# Altium footprint library ee_453_yourname.PcbLib: 35 footprints (part 1 of 3)
Each footprint in its own frame and in the unit in brackets; x right, y up, seen from the top. Pads: shape width x height; smd on the part's side, far side on the other; paste and mask are expansions set on the pad; w line width, h text height; cw(c..) or ccw(c..) is an arc to the next point about the centre after c.
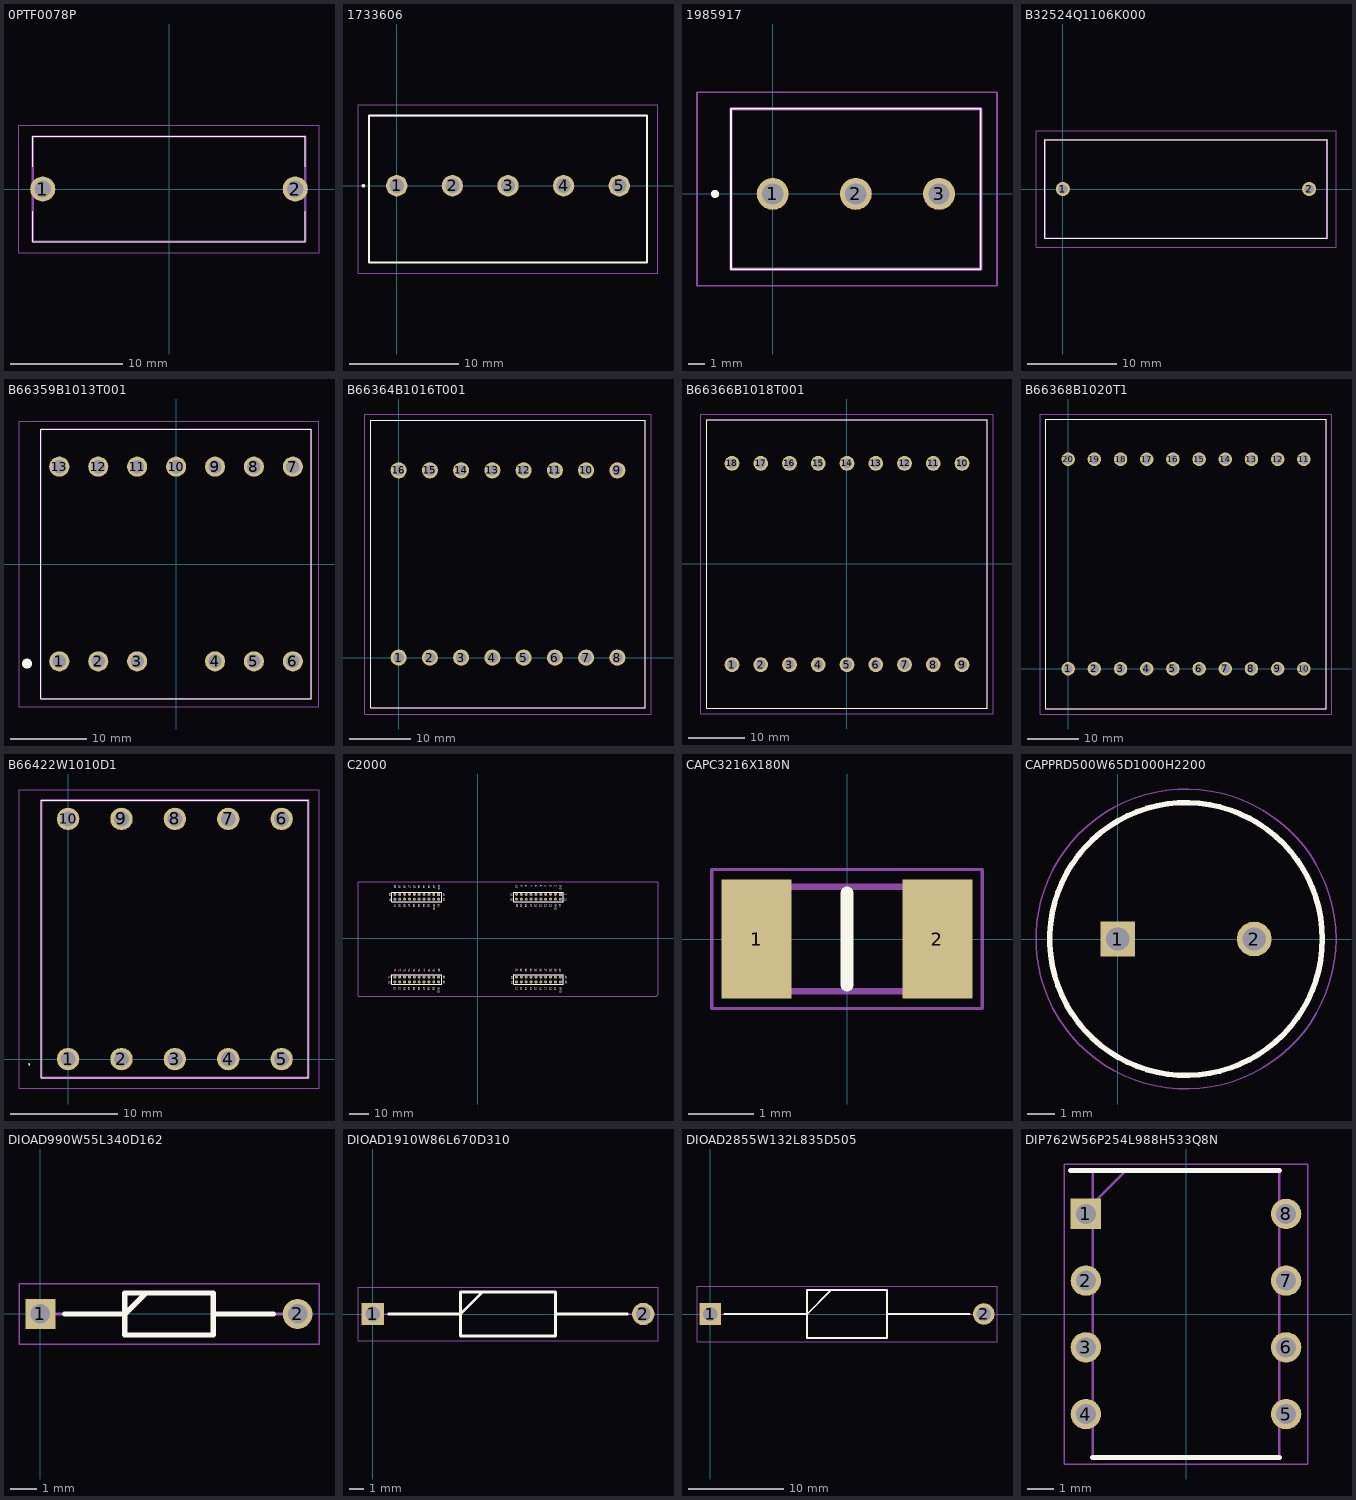
[diagram p0: the footprints below, top view; thin cyan lines are the x and y axes]

## 0PTF0078P [mm]
pads (2):
  round 2.25 hole 1.5: 1(-11.3,0) 2(11.3,0)
Top Overlay:
  lines w0.1: -12.2,-2 -12.2,-4.7 12.2,-4.7 12.2,-2 ; -12.2,2 -12.2,4.7 12.2,4.7 12.2,2
Mechanical 13:
  lines w0.2: -12.2,-4.7 -12.2,4.7 12.2,4.7 12.2,-4.7 -12.2,-4.7
Mechanical 15:
  lines w0.1: -13.425,-5.7 -13.425,5.7 13.425,5.7 13.425,-5.7 -13.425,-5.7
3D body "0PTF0078P.stp": height 11.6, standoff -5, extent -12.2,-4.7 12.2,4.7

## 1733606 [mm]
pads (5):
  round 1.95 hole 1.3: 1(0,0) 2(5.08,0) 3(10.16,0) 4(15.24,0) 5(20.32,0)
Top Overlay:
  lines w0.2: -3.1,0 ccw(c-3.05,0) -3,0 ; -3.1,0 cw(c-3.05,0) -3,0 ; -3.1,0 ccw(c-3.05,0) -3,0 ; -2.54,-7 22.86,-7 22.86,6.4 -2.54,6.4 -2.54,-7
Mechanical 13:
  lines w0.1: -2.54,-7 22.86,-7 22.86,6.4 -2.54,6.4 -2.54,-7
Mechanical 15:
  lines w0.1: -3.54,-8 23.86,-8 23.86,7.4 -3.54,7.4 -3.54,-8
3D body "1733606.stp": height 15.55, standoff -5, extent -2.54,-7 22.86,6.4

## 1985917 [mm]
pads (3):
  round 1.95 hole 1.3: 1(0,0) 2(5.08,0) 3(10.16,0)
Top Overlay:
  lines w0.1: -2.54,-4.6 -2.54,5.2 12.7,5.2 12.7,-4.6 -2.54,-4.6
  lines w0.3: -3.62,0 ccw(c-3.52,0) -3.42,0 ccw(c-3.52,0) -3.62,0
Mechanical 13:
  lines w0.2: -2.54,-4.6 -2.54,5.2 12.7,5.2 12.7,-4.6 -2.54,-4.6
Mechanical 15:
  lines w0.1: -4.62,-5.6 -4.62,6.2 13.7,6.2 13.7,-5.6 -4.62,-5.6
3D body "1985917.stp": height 14.05, standoff -5, extent -2.54,-4.6 12.7,5.2

## B32524Q1106K000 [mm]
pads (2):
  round 1.575 hole 1.05: 1(0,0) 2(27.5,0)
Top Overlay:
  lines w0.1: -2,-5.5 -2,5.5 29.5,5.5 29.5,-5.5 -2,-5.5
Mechanical 13:
  lines w0.2: -2,-5.5 -2,5.5 29.5,5.5 29.5,-5.5 -2,-5.5
Mechanical 15:
  lines w0.1: -3,-6.5 -3,6.5 30.5,6.5 30.5,-6.5 -3,-6.5
3D body "B32524Q1106K000.stp": height 21.1, standoff -5, extent -2,-5.5 29.5,5.5

## B66359B1013T001 [mm]
pads (13):
  round 2.625 hole 1.75: 1(-15.24,-12.7) 2(-10.16,-12.7) 3(-5.08,-12.7) 4(5.08,-12.7) 5(10.16,-12.7) 6(15.24,-12.7) 7(15.24,12.7) 8(10.16,12.7) 9(5.08,12.7) 10(0,12.7) 11(-5.08,12.7) 12(-10.16,12.7) 13(-15.24,12.7)
Top Overlay:
  lines w0.1: -17.65,-17.6 -17.65,17.6 17.65,17.6 17.65,-17.6 -17.65,-17.6
  lines w1.2: -19.5,-13 ccw(c-19.45,-13) -19.4,-13 ccw(c-19.45,-13) -19.5,-13
Mechanical 13:
  lines w0.2: -17.65,-17.6 -17.65,17.6 17.65,17.6 17.65,-17.6 -17.65,-17.6
Mechanical 15:
  lines w0.1: -20.5,-18.6 -20.5,18.6 18.65,18.6 18.65,-18.6 -20.5,-18.6
3D body "B66359B1013T001.stp": height 25, standoff -5, extent -17.65,-17.6 17.65,17.6

## B66364B1016T001 [mm]
pads (16):
  round 2.625 hole 1.75: 1(0,0) 2(5.08,0) 3(10.16,0) 4(15.24,0) 5(20.32,0) 6(25.4,0) 7(30.48,0) 8(35.56,0) 9(35.56,30.48) 10(30.48,30.48) 11(25.4,30.48) 12(20.32,30.48) 13(15.24,30.48) 14(10.16,30.48) 15(5.08,30.48) 16(0,30.48)
Top Overlay:
  lines w0.1: -4.52,-8.16 -4.52,38.64 40.08,38.64 40.08,-8.16 -4.52,-8.16
Mechanical 13:
  lines w0.2: -4.52,-8.16 -4.52,38.64 40.08,38.64 40.08,-8.16 -4.52,-8.16
Mechanical 15:
  lines w0.1: -5.52,-9.16 -5.52,39.64 41.08,39.64 41.08,-9.16 -5.52,-9.16
3D body "B66364B1016T001.stp": height 35.5, standoff -5, extent -4.52,-8.16 40.08,38.64

## B66366B1018T001 [mm]
pads (18):
  round 2.625 hole 1.75: 1(-20.32,-17.78) 2(-15.24,-17.78) 3(-10.16,-17.78) 4(-5.08,-17.78) 5(0,-17.78) 6(5.08,-17.78) 7(10.16,-17.78) 8(15.24,-17.78) 9(20.32,-17.78) 10(20.32,17.78) 11(15.24,17.78) 12(10.16,17.78) 13(5.08,17.78) 14(0,17.78) 15(-5.08,17.78) 16(-10.16,17.78) 17(-15.24,17.78) 18(-20.32,17.78)
Top Overlay:
  lines w0.1: -24.8,-25.5 24.8,-25.5 24.8,25.5 -24.8,25.5 -24.8,-25.5
Mechanical 13:
  lines w0.2: -24.8,-25.5 24.8,-25.5 24.8,25.5 -24.8,25.5 -24.8,-25.5
Mechanical 15:
  lines w0.1: -25.8,-26.5 25.8,-26.5 25.8,26.5 -25.8,26.5 -25.8,-26.5
3D body "B66366B1018T001.stp": height 38.4, standoff -5, extent -24.8,-25.5 24.8,25.5

## B66368B1020T1 [mm]
pads (20):
  round 2.625 hole 1.75: 1(0,0) 2(5.08,0) 3(10.16,0) 4(15.24,0) 5(20.32,0) 6(25.4,0) 7(30.48,0) 8(35.56,0) 9(40.64,0) 10(45.72,0) 11(45.72,40.64) 12(40.64,40.64) 13(35.56,40.64) 14(30.48,40.64) 15(25.4,40.64) 16(20.32,40.64) 17(15.24,40.64) 18(10.16,40.64) 19(5.08,40.64) 20(0,40.64)
Top Overlay:
  lines w0.1: -4.39,-7.78 -4.39,48.42 50.11,48.42 50.11,-7.78 -4.39,-7.78
Mechanical 13:
  lines w0.2: -4.39,-7.78 -4.39,48.42 50.11,48.42 50.11,-7.78 -4.39,-7.78
Mechanical 15:
  lines w0.1: -5.39,-8.78 -5.39,49.42 51.11,49.42 51.11,-8.78 -5.39,-8.78
3D body "B66368B1020T1.stp": height 40.9, standoff -5, extent -4.39,-7.78 50.11,48.42

## B66422W1010D1 [mm]
pads (10):
  round 2.1 hole 1.4: 1(0,0) 2(5,0) 3(10,0) 4(15,0) 5(20,0) 6(20,22.5) 7(15,22.5) 8(10,22.5) 9(5,22.5) 10(0,22.5)
Top Overlay:
  lines w0.1: -3.7,-0.5 cw(c-3.65,-0.5) -3.6,-0.5 cw(c-3.65,-0.5) -3.7,-0.5 ; -2.5,-1.75 -2.5,24.25 22.5,24.25 22.5,-1.75 -2.5,-1.75
Mechanical 13:
  lines w0.2: -2.5,-1.75 -2.5,24.25 22.5,24.25 22.5,-1.75 -2.5,-1.75
Mechanical 15:
  lines w0.1: -4.6,-2.75 -4.6,25.25 23.5,25.25 23.5,-2.75 -4.6,-2.75
3D body "B66422W1010D1.stp": height 12, standoff -5, extent -2.5,-1.75 22.5,24.25

## C2000 [mm]
pads (80):
  rrect6% 1.55x1.55 hole 1.02: 1(43.18,22.86) 41(-20.32,22.86)
  round 1.55 hole 1.02: 2(40.64,22.86) 3(38.1,22.86) 4(35.56,22.86) 5(33.02,22.86) 6(30.48,22.86) 7(27.94,22.86) 8(25.4,22.86) 9(22.86,22.86) 10(20.32,22.86) 11(20.32,-22.86) 12(22.86,-22.86) 13(25.4,-22.86) 14(27.94,-22.86) 15(30.48,-22.86) 16(33.02,-22.86) 17(35.56,-22.86) 18(38.1,-22.86) 19(40.64,-22.86) 20(43.18,-22.86) 21(43.18,20.32) 22(40.64,20.32) 23(38.1,20.32) 24(35.56,20.32) 25(33.02,20.32) 26(30.48,20.32) 27(27.94,20.32) 28(25.4,20.32) 29(22.86,20.32) 30(20.32,20.32) 31(20.32,-20.32) 32(22.86,-20.32) 33(25.4,-20.32) 34(27.94,-20.32) 35(30.48,-20.32) 36(33.02,-20.32) 37(35.56,-20.32) 38(38.1,-20.32) 39(40.64,-20.32) 40(43.18,-20.32) 42(-22.86,22.86) 43(-25.4,22.86) 44(-27.94,22.86) 45(-30.48,22.86) 46(-33.02,22.86) 47(-35.56,22.86) 48(-38.1,22.86) 49(-40.64,22.86) 50(-43.18,22.86) 51(-43.18,-22.86) 52(-40.64,-22.86) 53(-38.1,-22.86) 54(-35.56,-22.86) 55(-33.02,-22.86) 56(-30.48,-22.86) 57(-27.94,-22.86) 58(-25.4,-22.86) 59(-22.86,-22.86) 60(-20.32,-22.86) 61(-20.32,20.32) 62(-22.86,20.32) 63(-25.4,20.32) 64(-27.94,20.32) 65(-30.48,20.32) 66(-33.02,20.32) 67(-35.56,20.32) 68(-38.1,20.32) 69(-40.64,20.32) 70(-43.18,20.32) 71(-43.18,-20.32) 72(-40.64,-20.32) 73(-38.1,-20.32) 74(-35.56,-20.32) 75(-33.02,-20.32) 76(-30.48,-20.32) 77(-27.94,-20.32) 78(-25.4,-20.32) 79(-22.86,-20.32) 80(-20.32,-20.32)
Top Overlay:
  lines w0.2: -44.704,-24.066 -18.796,-24.066 -18.796,-19.113 -44.704,-19.113 -44.704,-24.066 ; -44.704,19.113 -18.796,19.113 -18.796,24.067 -44.704,24.067 -44.704,19.113 ; 18.796,-24.066 44.704,-24.066 44.704,-19.113 18.796,-19.113 18.796,-24.066 ; 18.796,19.113 44.704,19.113 44.704,24.067 18.796,24.067 18.796,19.113
  text "51" at -46.355,-22.559 h0.76
  text "71" at -46.394,-19.752 h0.76
  text "40" at 42.672,-15.998 h0.76
  text "GND" at -20.701,-25.734 h0.76
  text "3V3" at -20.623,27.558 h0.76
  text "GND" at -23.204,17.566 h0.76
  text "5V" at -20.75,17.566 h0.76
  text "3V3" at 43.004,27.558 h0.76
  text "5V" at 42.75,17.566 h0.76
  text "GND" at 40.296,17.566 h0.76
  text "GND" at 42.799,-25.734 h0.76
  text "40" at 45.798,-19.685 h0.76
  text "31" at 17.526,-19.812 h0.76
  text "11" at 17.526,-22.428 h0.76
  text "20" at 45.798,-22.225 h0.76
  text "21" at 45.593,20.955 h0.76
  text "30" at 17.399,20.955 h0.76
  text "1" at 45.593,23.114 h0.76
  text "10" at 17.399,23.419 h0.76
  text "71" at -43.434,-15.998 h0.76
  text "80" at -17.78,-19.685 h0.76
  text "60" at -17.78,-22.225 h0.76
  text "70" at -45.974,20.955 h0.76
  text "50" at -45.974,23.419 h0.76
  text "61" at -17.78,20.828 h0.76
  text "41" at -17.78,23.495 h0.76
  text "2" at 40.259,27.558 h0.76
  text "3" at 37.719,27.558 h0.76
  text "4" at 35.179,27.558 h0.76
  text "5" at 32.639,27.558 h0.76
  text "6" at 30.099,27.558 h0.76
  text "7" at 27.559,27.558 h0.76
  text "8" at 25.019,27.558 h0.76
  text "9" at 22.479,27.558 h0.76
  text "10" at 19.939,27.558 h0.76
  text "23" at 37.592,17.566 h0.76
  text "24" at 35.052,17.566 h0.76
  text "25" at 32.512,17.566 h0.76
  text "26" at 29.972,17.566 h0.76
  text "28" at 24.892,17.566 h0.76
  text "29" at 22.352,17.566 h0.76
  text "30" at 20.066,17.566 h0.76
  text "70" at -43.688,17.566 h0.76
  text "69" at -41.148,17.566 h0.76
  text "68" at -38.608,17.566 h0.76
  text "66" at -33.528,17.566 h0.76
  text "65" at -30.988,17.566 h0.76
  text "64" at -28.448,17.566 h0.76
  text "63" at -25.908,17.566 h0.76
  text "50" at -43.561,27.558 h0.76
  text "49" at -41.021,27.558 h0.76
  text "48" at -38.481,27.558 h0.76
  text "47" at -35.941,27.558 h0.76
  text "46" at -33.401,27.558 h0.76
  text "45" at -30.861,27.558 h0.76
  text "44" at -28.321,27.558 h0.76
  text "43" at -25.781,27.558 h0.76
  text "42" at -23.241,27.558 h0.76
  text "67" at -36.068,17.566 h0.76
  text "54" at -36.068,-25.734 h0.76
  text "77" at -28.355,-15.998 h0.76
  text "76" at -30.895,-15.998 h0.76
  text "75" at -33.528,-15.998 h0.76
  text "74" at -36.068,-15.998 h0.76
  text "73" at -38.515,-15.998 h0.76
  text "72" at -41.055,-15.998 h0.76
  text "80" at -20.608,-15.998 h0.76
  text "58" at -25.908,-25.734 h0.76
  text "57" at -28.448,-25.734 h0.76
  text "56" at -30.988,-25.734 h0.76
  text "55" at -33.528,-25.734 h0.76
  text "53" at -38.608,-25.734 h0.76
  text "52" at -41.148,-25.734 h0.76
  text "51" at -43.688,-25.734 h0.76
  text "14" at 27.432,-25.734 h0.76
  text "37" at 35.052,-15.998 h0.76
  text "36" at 32.512,-15.998 h0.76
  text "35" at 29.972,-15.998 h0.76
  text "34" at 27.432,-15.998 h0.76
  text "33" at 24.892,-15.998 h0.76
  text "32" at 22.352,-15.998 h0.76
  text "31" at 19.812,-15.998 h0.76
  text "18" at 37.592,-25.734 h0.76
  text "17" at 35.052,-25.734 h0.76
  text "16" at 32.512,-25.734 h0.76
  text "15" at 29.972,-25.734 h0.76
  text "13" at 24.892,-25.734 h0.76
  text "12" at 22.352,-25.734 h0.76
  text "11" at 19.812,-25.734 h0.76
  text "59" at -23.368,-25.734 h0.76
  text "19" at 40.132,-25.734 h0.76
  text "27" at 27.432,17.566 h0.76
  text "38" at 37.719,-15.998 h0.76
  text "39" at 40.259,-15.998 h0.76
  text "79" at -23.275,-15.998 h0.76
  text "78" at -25.815,-15.998 h0.76
Bottom Overlay:
  lines w0.2: -44.704,-24.067 -44.704,-19.113 -18.796,-19.113 -18.796,-24.067 -44.704,-24.067 ; -44.704,19.113 -44.704,24.066 -18.796,24.066 -18.796,19.113 -44.704,19.113 ; 18.796,-24.067 18.796,-19.113 44.704,-19.113 44.704,-24.067 18.796,-24.067 ; 18.796,19.113 44.704,19.113 44.704,24.066 18.796,24.066 18.796,19.113
  text "P12" at -46.355,-24.59 h0.76
  text "71" at -46.394,-20.767 h0.76
  text "GND" at -20.75,-27.765 h0.76
  text "GND" at 42.877,-27.765 h0.76
  text "3V3" at 42.926,25.526 h0.76
  text "5V" at 42.75,16.296 h0.76
  text "GND" at 40.259,15.535 h0.76
  text "3V3" at -20.574,25.526 h0.76
  text "5V" at -20.75,16.296 h0.76
  text "GND" at -23.241,15.535 h0.76
  text "1" at 45.593,22.733 h0.76
  text "21" at 45.593,19.939 h0.76
  text "10" at 17.399,22.352 h0.76
  text "30" at 17.399,19.558 h0.76
  text "20" at 45.798,-23.495 h0.76
  text "40" at 45.798,-21.082 h0.76
  text "11" at 17.526,-23.368 h0.76
  text "31" at 17.526,-20.828 h0.76
  text "70" at -45.974,19.812 h0.76
  text "50" at -45.974,22.352 h0.76
  text "61" at -17.78,19.812 h0.76
  text "41" at -17.78,22.098 h0.76
  text "71" at -43.434,-17.014 h0.76
  text "80" at -17.78,-20.828 h0.76
  text "60" at -17.78,-23.622 h0.76
  text "P57" at 40.132,-27.765 h0.76
  text "NC" at 37.719,-27.003 h0.76
  text "NC" at 35.052,-27.003 h0.76
  text "XRSn" at 32.512,-27.765 h0.76
  text "P16" at 29.972,-27.765 h0.76
  text "P17" at 27.432,-27.765 h0.76
  text "P39" at 24.892,-27.765 h0.76
  text "P23" at 22.352,-27.765 h0.76
  text "P59" at 19.812,-27.765 h0.76
  text "P10" at 42.672,-17.903 h0.76
  text "P11" at 40.259,-17.649 h0.76
  text "P08" at 37.719,-18.03 h0.76
  text "P09" at 35.052,-18.03 h0.76
  text "P04" at 32.512,-18.03 h0.76
  text "P05" at 29.972,-18.03 h0.76
  text "P58" at 27.432,-18.03 h0.76
  text "P30" at 24.892,-18.03 h0.76
  text "P18" at 22.352,-17.903 h0.76
  text "P25" at 19.812,-18.03 h0.76
  text "P14" at -41.055,-17.903 h0.76
  text "P15" at -38.515,-17.903 h0.76
  text "P26" at -35.975,-18.03 h0.76
  text "P03" at -33.435,-18.03 h0.76
  text "P02" at -30.895,-18.03 h0.76
  text "P07" at -28.482,-18.03 h0.76
  text "P06" at -25.815,-18.03 h0.76
  text "P01" at -23.275,-17.776 h0.76
  text "P00" at -20.608,-18.03 h0.76
  text "P12" at -43.688,-27.765 h0.76
  text "P34" at -41.148,-27.765 h0.76
  text "P33" at -38.608,-27.765 h0.76
  text "P31" at -36.068,-27.765 h0.76
  text "P24" at -33.528,-27.765 h0.76
  text "XRSn" at -30.988,-27.765 h0.76
  text "NC" at -28.448,-27.003 h0.76
  text "NC" at -25.908,-27.003 h0.76
  text "P27" at -23.368,-27.765 h0.76
  text "AA6" at -25.908,15.535 h0.76
  text "AC1" at -33.528,15.789 h0.76
  text "AA0/DACA" at -44.958,11.726 h0.76
  text "PGAGND" at -23.368,24.765 h0.76
  text "P28" at -25.781,25.526 h0.76
  text "P29" at -28.321,25.526 h0.76
  text "P22" at -35.941,25.526 h0.76
  text "NC" at -41.021,26.288 h0.76
  text "NC" at -43.561,26.288 h0.76
  text "P35" at 19.939,25.526 h0.76
  text "P37" at 22.479,25.526 h0.76
  text "P56" at 27.559,25.526 h0.76
  text "P40" at 35.179,25.526 h0.76
  text "P13" at 37.719,25.653 h0.76
  text "PGAGND" at 40.132,24.765 h0.76
  text "AB1" at 29.972,15.789 h0.76
  text "AC2" at 32.512,15.535 h0.76
  text "AB0" at 35.052,15.535 h0.76
  text "AA5" at 37.592,15.535 h0.76
  text "NC" at 32.639,26.288 h0.76
  text "AB3" at 30.099,25.526 h0.76
  text "AC4" at 25.019,25.526 h0.76
  text "AB4/G4O" at -30.734,24.875 h0.64
  text "AA4/G2O" at -33.401,24.875 h0.64
  text "AA8/G6O" at -38.481,24.875 h0.64
  text "AA1/DACB" at 18.542,12.954 h0.76
  text "AA9/G5I" at 22.606,13.571 h0.64
  text "AC0/G3I" at 25.019,13.571 h0.64
  text "AB2/G1I" at 27.686,13.677 h0.64
Mechanical 6:
  lines w0.1: -44.704,-24.066 -44.704,-19.113 -18.796,-19.113 -18.796,-24.066 -44.704,-24.066 ; -44.704,19.113 -44.704,24.067 -18.796,24.067 -18.796,19.113 -44.704,19.113 ; 18.796,-24.066 44.704,-24.066 44.704,-19.113 18.796,-19.113 18.796,-24.066 ; 18.796,19.113 18.796,24.067 44.704,24.067 44.704,19.113 18.796,19.113
Mechanical - C2000 Outline (Mech16):
  lines w0.025: -62.406,-30.226 -62.406,29.21 -62.279,29.337 94.185,29.337 94.185,-29.337 93.296,-30.226 -62.406,-30.226
3D body "SSQ-110-03-T-D.stp": height 8.51, standoff -10.01, extent -44.704,19.113 -18.796,24.066
3D body "SSQ-110-03-T-D.stp": height 8.51, standoff -10.01, extent -44.704,-24.067 -18.796,-19.114
3D body "SSQ-110-03-T-D.stp": height 8.51, standoff -10.01, extent 18.796,19.113 44.704,24.066
3D body "SSQ-110-03-T-D.stp": height 8.51, standoff -10.01, extent 18.796,-24.067 44.704,-19.114

## CAPC3216X180N [mm]
pads (2):
  rect 1.07x1.82 smd: 1(-1.38,0) 2(1.38,0)
Top Overlay:
  lines w0.2: 0,-0.7 0,0.7
Mechanical 13:
  lines w0.1: -1.6,-0.8 -1.6,0.8 1.6,0.8 1.6,-0.8 -1.6,-0.8
Mechanical 15:
  lines w0.05: -2.065,-1.06 -2.065,1.06 2.065,1.06 2.065,-1.06 -2.065,-1.06
3D body "GRM31CR61H106KA12K.stp": height 1.8, standoff 0, extent -1.6,-0.8 1.6,0.8

## CAPPRD500W65D1000H2200 [mm]
pads (2):
  rect 1.275x1.275 hole 0.85: 1(0,0)
  round 1.275 hole 0.85: 2(5,0)
Top Overlay:
  circle w0.2: c2.5,0 r5
Mechanical 13:
  circle w0.1: c2.5,0 r5
Mechanical 15:
  circle w0.05: c2.5,0 r5.5
3D body "EEU-FR2A101.stp": height 22, standoff -10, extent -2.75,-5.247 7.75,5.247

## DIOAD990W55L340D162 [mm]
pads (2):
  rect 1.15x1.15 hole 0.75: 1(0,0)
  round 1.15 hole 0.75: 2(9.9,0)
Top Overlay:
  lines w0.2: 0.925,0 3.25,0 4.062,0.812 ; 6.65,0 8.975,0 ; 3.25,-0.812 6.65,-0.812 6.65,0.812 3.25,0.812 3.25,-0.812
Mechanical 13:
  lines w0.1: 0,0 3.25,0 4.062,0.812 ; 6.65,0 9.9,0 ; 3.25,-0.813 6.65,-0.813 6.65,0.812 3.25,0.812 3.25,-0.813
Mechanical 15:
  lines w0.05: -0.825,-1.163 10.725,-1.163 10.725,1.162 -0.825,1.162 -0.825,-1.163
3D body "1N4148B.stp": height 1.74, standoff -1.75, extent -0.273,-0.873 10.175,0.873

## DIOAD1910W86L670D310 [mm]
pads (2):
  rect 1.575x1.575 hole 1.05: 1(0,0)
  round 1.575 hole 1.05: 2(19.1,0)
Top Overlay:
  lines w0.2: 1.138,0 6.2,0 7.75,1.55 ; 12.9,0 17.962,0 ; 6.2,-1.55 12.9,-1.55 12.9,1.55 6.2,1.55 6.2,-1.55
Mechanical 13:
  lines w0.1: 0,0 6.2,0 7.75,1.55 ; 12.9,0 19.1,0 ; 6.2,-1.55 12.9,-1.55 12.9,1.55 6.2,1.55 6.2,-1.55
Mechanical 15:
  lines w0.05: -1.038,-1.9 20.137,-1.9 20.137,1.9 -1.038,1.9 -1.038,-1.9
3D body "P6KE91A-E3_54.stp": height 3.6, standoff -3.6, extent -0.427,-1.8 19.53,1.8

## DIOAD2855W132L835D505 [mm]
pads (2):
  rect 2.25x2.25 hole 1.5: 1(0,0)
  round 2.25 hole 1.5: 2(28.6,0)
Top Overlay:
  lines w0.2: 1.475,0 10.125,0 12.65,2.525 ; 18.475,0 27.125,0 ; 10.125,-2.525 10.125,2.525 18.475,2.525 18.475,-2.525 10.125,-2.525
Mechanical 13:
  lines w0.1: 0,0 10.125,0 12.65,2.525 ; 18.475,0 28.6,0 ; 10.125,-2.525 10.125,2.525 18.475,2.525 18.475,-2.525 10.125,-2.525
Mechanical 15:
  lines w0.05: -1.375,-2.875 -1.375,2.875 29.975,2.875 29.975,-2.875 -1.375,-2.875
3D body "SB3H100-E3_54.stp": height 5.3, standoff -5.3, extent -0.655,-2.65 29.21,2.65

## DIP762W56P254L988H533Q8N [mm]
pads (8):
  rect 1.158x1.158 hole 0.758: 1(-3.81,3.81)
  round 1.158 hole 0.758: 2(-3.81,1.27) 3(-3.81,-1.27) 4(-3.81,-3.81) 5(3.81,-3.81) 6(3.81,-1.27) 7(3.81,1.27) 8(3.81,3.81)
Top Overlay:
  lines w0.2: -4.389,5.46 3.555,5.46 ; -3.555,-5.46 3.555,-5.46
Mechanical 13:
  lines w0.1: -3.555,4.19 -2.285,5.46 ; -3.555,-5.46 3.555,-5.46 3.555,5.46 -3.555,5.46 -3.555,-5.46
Mechanical 15:
  lines w0.05: -4.639,-5.71 4.639,-5.71 4.639,5.71 -4.639,5.71 -4.639,-5.71
3D body "IRS2184PBF.stp": height 5.33, standoff -3.5, extent -3.949,-4.94 3.949,4.94